# Altium schematic symbol library BME.SchLib: 1 symbol
Pins are listed as number, name and electrical type; pins without a type are passive.

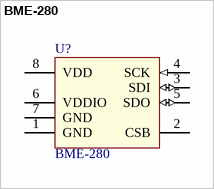
[diagram p0: symbol BME-280]

## BME-280
designator U?
value: BME-280
footprint BME-280 (Pressure sensor package footprint)
pins: 1 GND (power), 2 CSB, 3 SDI (io), 4 SCK (in), 5 SDO (io), 6 VDDIO (power), 7 GND, 8 VDD (power)